# Altium schematic symbol library PinHeaderMale.SchLib: 5 symbols
Pins are listed as number, name and electrical type; pins without a type are passive.

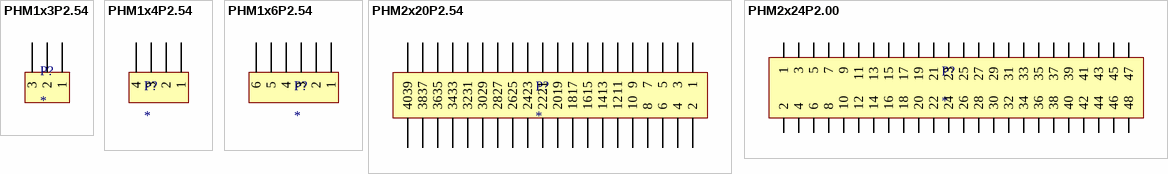
[diagram p0: symbols PHM1x3P2.54 to PHM2x24P2.00]

## PHM1x3P2.54
designator P?
Pin Header Male 3 Pins Pitch 2.54mm; Digi-Key Part Number: WM8085-ND
footprint MALE3PIN (Pin Header Male 3 Pins)
pins: 1, 2, 3

## PHM1x4P2.54
designator P?
Pin Header Male 1x4 Pitch 2.54mm; Digi-Key Part Number: 3M9449-ND
footprint MALE4PIN (Pin Header Male 1x4 Pitch 2.54mm)
pins: 1, 2, 3, 4

## PHM1x6P2.54
designator P?
Pin Header Male 6 Pins Pitch 2.54mm; Digi-Key Part Number: *
footprint MALE6PIN
pins: 1, 2, 3, 4, 5, 6

## PHM2x20P2.54
designator P?
Pin Header Male 40 Pins Pitch 2.54mm; Digi-Key Part Number: *
footprint MALE2x20PIN (Pin Header Male 40 Pins 2Rows)
pins: 1, 2, 3, 4, 5, 6, 7, 8, 9, 10, 11, 12, 13, 14, 15, 16, 17, 18, 19, 20, 21, 22, 23, 24, 25, 26, 27, 28, 29, 30, 31, 32, 33, 34, 35, 36, 37, 38, 39, 40

## PHM2x24P2.00
designator P?
Pin Header Male 2x24 pins with pitch 2mm; Digi-Key Part Number: 609-2908-ND
footprint MALEPIN2x24P2.0
footprint MALEPIN2x24P2.0RightAngle
pins: 1, 2, 3, 4, 5, 6, 7, 8, 9, 10, 11, 12, 13, 14, 15, 16, 17, 18, 19, 20, 21, 22, 23, 24, 25, 26, 27, 28, 29, 30, 31, 32, 33, 34, 35, 36, 37, 38, 39, 40, 41, 42, 43, 44, 45, 46, 47, 48